# Altium schematic symbol library Plytka_rozwojowa_ZCAD.SCHLIB: 103 symbols (part 2 of 2)
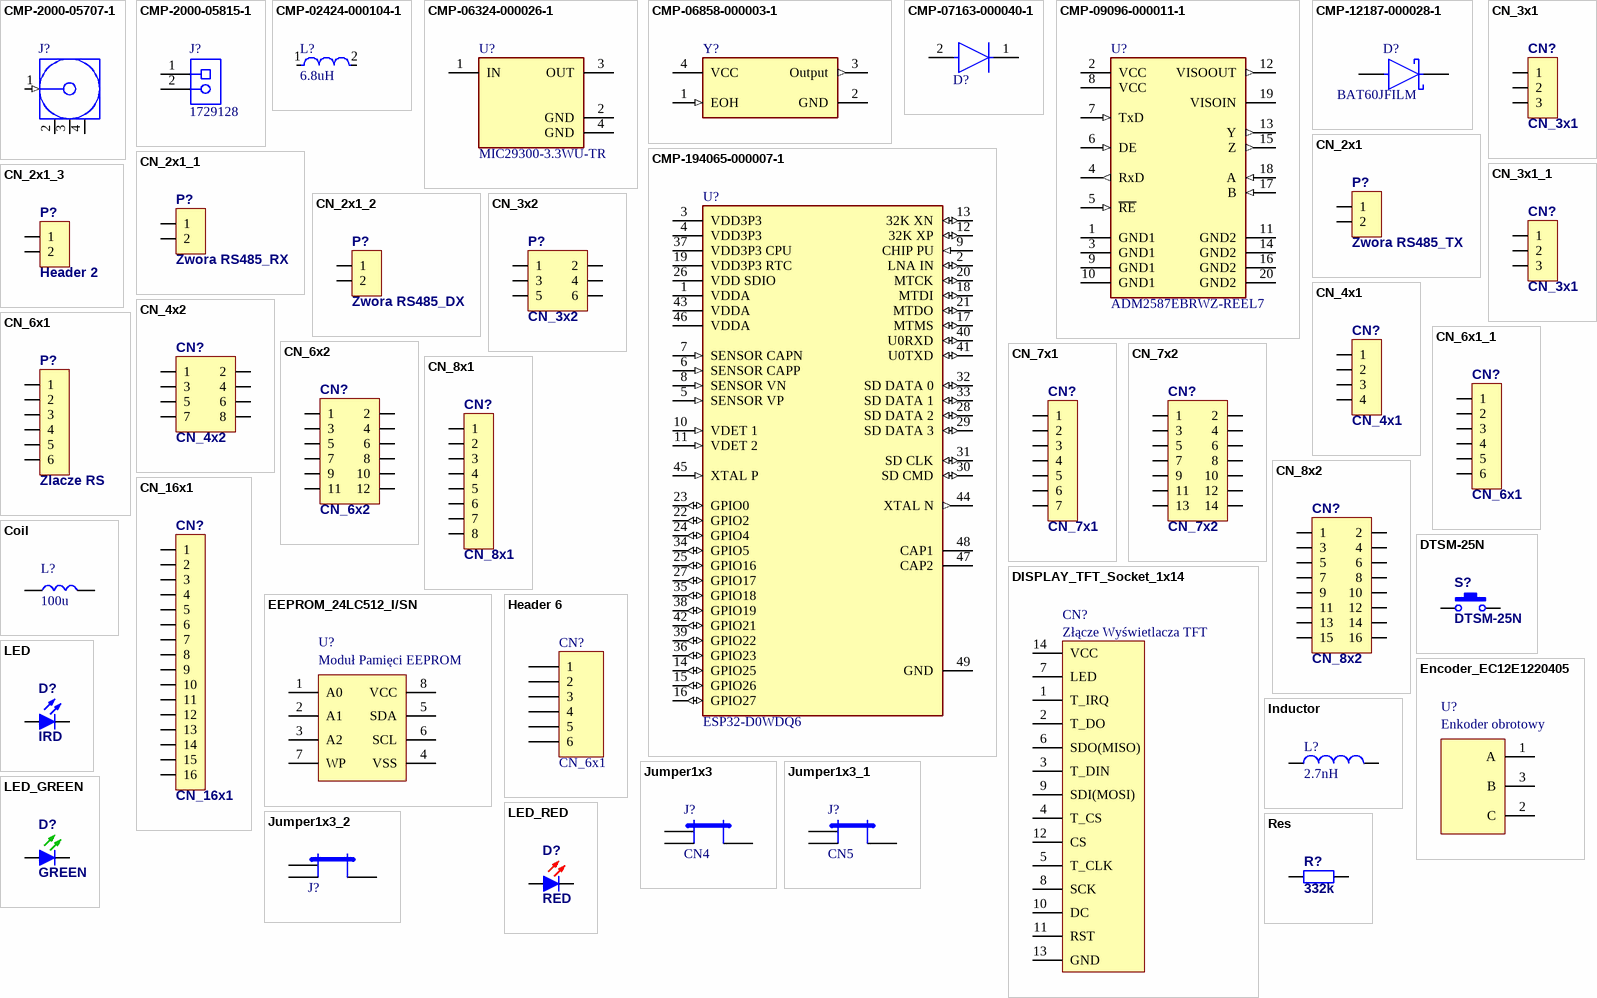
[diagram p3: symbols CMP-2000-05707-1 to Res]

## CMP-09096-000011-1
designator U?, comment ADM2587EBRWZ-REEL7
DGTL ISO RS422/RS485 20SOIC TME@ADM2587EBRWZ-REEL7; Manufacturer: Analog Devices; Min Supply Voltage: 3.3V; Simplex Duplex: Full Duplex; Nominal Supply Current: 72-125mA; Data Rate: 500kbits/s; Number Of Receivers: 1; Interface: RS-485,RS-422; Max Supply Voltage: 5V; Standoff Height: 0.1mm; Package: RW-20; ComponentLink2Description: Datasheet; Digikey Description: DGTL ISO RS422/RS485 20SOIC; Ipc Land Pattern Name: SOIC127P1032X250-20; Automotive: No; Octopart: https://octopart.com/adm2587ebrwz-reel7-analog+devices-12809043; Device Class L3: RS-232 / RS-422 / RS-485 Interface ICs; Temperature: -40°C to +85°C; Lead Free: Yes; ComponentLink2URL: https://www.analog.com/media/en/technical-documentation/data-sheets/adm2582e_2587e.pdf; RoHS: TRUE; Manufacturer Part Number: ADM2587EBRWZ-REEL7; Temperature Range Low: -40°C; Height: 2.65mm; Temperature Range High: +85°C; Mouser Description: Digital Isolators 2.5kV Sgnl & Pwr Iso Full/Hlf Duplx; Device Class L2: Interface ICs; Device Class L1: Integrated Circuits (ICs); Number Of Transmitters: 1; Category: IC; ComponentLink3Description: TME; ComponentLink3URL: https://www.tme.eu/pl/details/adm2587ebrwz-reel7/uklady-scalone-interfejs-rs232-422-485/analog-devices/; Manufacturer 1: Analog Devices; Manufacturer Part Number 1: ADM2587EBRWZ-REEL7
footprint FP-RW-20-IPC_C
footprint FP-RW-20-IPC_B
footprint FP-RW-20-IPC_A
pins: 1 GND1 (power), 2 VCC (power), 3 GND1 (power), 4 RxD (out), 5 ~{RE} (in), 6 DE (in), 7 TxD (in), 8 VCC (power), 9 GND1 (power), 10 GND1 (power), 11 GND2 (power), 12 VISOOUT (out), 13 Y (out), 14 GND2 (power), 15 Z (out), 16 GND2 (power), 17 B (in), 18 A (in), 19 VISOIN (power), 20 GND2 (power)

## CMP-12187-000028-1
designator D?, comment BAT60JFILM
Diode schottky RRM; Manufacturer 1: STMicroelectronics; Current: 3A; Max Forward Surge Current (Ifsm): 5A; Forward Voltage: 580mV; Max Reverse Leakage Current: 7.5uA; Element Configuration: Single; Max Reverse Voltage (DC): 10V; Polarity: Standard; Contact Plating: Tin; Package Quantity: 1; Mount: Surface Mount; Min Operating Temperature: -65°C; Average Rectified Current: 3A; Packaging: Tape and Reel; Forward Current: 3A; Height: 1.07mm; Length: 1.8mm; REACH SVHC: No SVHC; Peak Non-Repetitive Surge Current: 5A; Max Surge Current: 5A; Width: 1.45mm; Current Rating: 3A; Lead Free: Lead Free; Radiation Hardening: No; Peak Reverse Current: 7.5uA; Voltage: 10V; Max Operating Temperature: 150°C; Max Repetitive Reverse Voltage (Vrrm): 10V; Number of Pins: 2; Weight: 0.01lb; Footprint: SOD323; Footprint model: https://octopart.com/search?autosugg_idx=0&currency=USD&oq=BAT60JFILM&q=BAT60JFILM&specs=1; 3D model: https://octopart.com/search?autosugg_idx=0&currency=USD&oq=BAT60JFILM&q=BAT60JFILM&specs=1; Shop link: RS-Components: @7146879P; Manufacturer Part Number 1: BAT60JFILM
footprint FP-BAT60JFILM-MFG
footprint FP-BAT60JFILM-IPC_C
footprint FP-BAT60JFILM-IPC_B
footprint FP-BAT60JFILM-IPC_A
pins: 1 K, 2 A

## CMP-194065-000007-1
designator U?, comment ESP32-D0WDQ6
IC RF TXRX+MCU BLUETOOTH 48VFQFN; Manufacturer 1: Espressif Systems; Memory Size: 520KB; Current - Receiving: 100mA; Current - Transmitting: 240mA; Interface: I2C; Sensitivity: -98dBm; Frequency: 2.4GHz; Data Rate: 150Mbps; Number of GPIO: 34; Min Operating Temperature: -40°C; Max Operating Temperature: 125°C; Packaging: Tape and Reel; Manufacturer Part Number 1: ESP32-D0WDQ6
footprint FP-ESP32-D0WDQ6-IPC_C
footprint FP-ESP32-D0WDQ6-IPC_B
footprint FP-ESP32-D0WDQ6-IPC_A
pins: 1 VDDA (power), 2 LNA IN (io), 3 VDD3P3 (power), 4 VDD3P3 (power), 5 SENSOR VP (in), 6 SENSOR CAPP (in), 7 SENSOR CAPN (in), 8 SENSOR VN (in), 9 CHIP PU (in), 10 VDET 1 (in), 11 VDET 2 (in), 12 32K XP (io), 13 32K XN (io), 14 GPIO25 (io), 15 GPIO26 (io), 16 GPIO27 (io), 17 MTMS (io), 18 MTDI (io), 19 VDD3P3 RTC (power), 20 MTCK (io), 21 MTDO (io), 22 GPIO2 (io), 23 GPIO0 (io), 24 GPIO4 (io), 25 GPIO16 (io), 26 VDD SDIO (power), 27 GPIO17 (io), 28 SD DATA 2 (io), 29 SD DATA 3 (io), 30 SD CMD (io), 31 SD CLK (io), 32 SD DATA 0 (io), 33 SD DATA 1 (io), 34 GPIO5 (io), 35 GPIO18 (io), 36 GPIO23 (io), 37 VDD3P3 CPU (power), 38 GPIO19 (io), 39 GPIO22 (io), 40 U0RXD (io), 41 U0TXD (io), 42 GPIO21 (io), 43 VDDA (power), 44 XTAL N (out), 45 XTAL P (in), 46 VDDA (power), 47 CAP2, 48 CAP1, 49 GND (power)

## CN_2x1
designator P?, comment Zwora RS485_TX
footprint GP_2x1
footprint GP_2x1H
footprint GP_2x1H_2mm
footprint GP_2x1_2mm
pins: 1, 2

## CN_2x1_1
designator P?, comment Zwora RS485_RX
footprint GP_2x1
footprint GP_2x1H
footprint GP_2x1H_2mm
footprint GP_2x1_2mm
pins: 1, 2

## CN_2x1_2
designator P?, comment Zwora RS485_DX
footprint GP_2x1
footprint GP_2x1H
footprint GP_2x1H_2mm
footprint GP_2x1_2mm
pins: 1, 2

## CN_2x1_3
designator P?, comment Header 2
footprint GP_2x1
footprint GP_2x1H
footprint GP_2x1H_2mm
footprint GP_2x1_2mm
pins: 1, 2

## CN_3x1
designator CN?
Goldpin type: male 2.54mm
footprint GP_3x1
footprint GP_3x1H
footprint GP_3x1H_2mm
footprint GP_3x1_2mm
pins: 1, 2, 3

## CN_3x1_1
designator CN?, comment CN_3x1
footprint GP_3x1
footprint GP_3x1H
footprint GP_3x1H_2mm
footprint GP_3x1_2mm
pins: 1, 2, 3

## CN_3x2
designator P?
footprint GP_3x2
footprint GP_3x2H
footprint GP_3x2H_2mm
footprint GP_3x2_2mm
pins: 1, 2, 3, 4, 5, 6

## CN_4x1
designator CN?
footprint GP_4x1
footprint GP_4x1H
footprint GP_4x1H_2mm
footprint GP_4x1_2mm
pins: 1, 2, 3, 4

## CN_4x2
designator CN?
footprint GP_4x2
footprint GP_4x2H
footprint GP_4x2H_2mm
footprint GP_4x2_2mm
pins: 1, 2, 3, 4, 5, 6, 7, 8

## CN_6x1
designator P?, comment Zlacze RS
footprint GP_6x1H
footprint GP_6x1
footprint GP_6x1H_2mm
footprint GP_6x1_2mm
pins: 1, 2, 3, 4, 5, 6

## CN_6x1_1
designator CN?, comment CN_6x1
footprint GP_6x1H
footprint GP_6x1
footprint GP_6x1H_2mm
footprint GP_6x1_2mm
pins: 1, 2, 3, 4, 5, 6

## CN_6x2
designator CN?
footprint GP_6x2
footprint GP_6x2H
footprint GP_6x2H_2mm
footprint GP_6x2_2mm
footprint GP_6x2_2mm_SMD
pins: 1, 2, 3, 4, 5, 6, 7, 8, 9, 10, 11, 12

## CN_7x1
designator CN?
footprint GP_7x1
footprint GP_7x1H
footprint GP_7x1H_2mm
footprint GP_7x1_2mm
pins: 1, 2, 3, 4, 5, 6, 7

## CN_7x2
designator CN?
footprint GP_7x2
footprint GP_7x2H
footprint GP_7x2H_2mm
footprint GP_7x2_2mm
pins: 1, 2, 3, 4, 5, 6, 7, 8, 9, 10, 11, 12, 13, 14

## CN_8x1
designator CN?
footprint GP_8x1
footprint GP_8x1H
footprint GP_8x1H_2mm
footprint GP_8x1_2mm
pins: 1, 2, 3, 4, 5, 6, 7, 8

## CN_8x2
designator CN?
footprint GP_8x2H
footprint GP_8x2
footprint GP_8x2_2mm
footprint GP_8x2H_2mm
pins: 1, 2, 3, 4, 5, 6, 7, 8, 9, 10, 11, 12, 13, 14, 15, 16

## CN_16x1
designator CN?
footprint GP_16x1
footprint GP_16x1H
pins: 1, 2, 3, 4, 5, 6, 7, 8, 9, 10, 11, 12, 13, 14, 15, 16

## Coil
designator L?  value 100u  (hidden comment: Coil)
Model: COIL0406-0.1; Shop link: https://www.tme.eu/pl/details/coil0406-0.1/dlawiki-pionowe/ferrocore/; Voltage: *; Prefered Voltage: *; Assembly type: THT; Quantity: *; User description: *; 3D model link: *
footprint Coil_Raster_2mm
pins: 1, 2

## DISPLAY_TFT_Socket_1x14
designator CN?, comment Złącze Wyświetlacza TFT
footprint Display_TFT_Socket_1x14_Raster_2_54mm
pins: 1 T_IRQ, 2 T_DO, 3 T_DIN, 4 T_CS, 5 T_CLK, 6 SDO(MISO), 7 LED, 8 SCK, 9 SDI(MOSI), 10 DC, 11 RST, 12 CS, 13 GND, 14 VCC

## DTSM-25N
designator S?
DIPTRONICS Brown 12x12mm SMD Tactile SPST-NO Switch; Supplier 1: TME; Supplier Part Number 1: DTSM-25N-V-B
footprint DTSM-25N
pins: 1, 2

## EEPROM_24LC512_I/SN
designator U?, comment Moduł Pamięci EEPROM
Model: 24LC512-I/SN; Shop link: https://www.tme.eu/pl/details/24lc512-i_sn/pamieci-eeprom-szeregowe/microchip-technology/; Value: *; Quantity: *; Voltage: *; Assembly type: SMD; Footprint link: https://www.snapeda.com/parts/24LC512-I/SN/Microchip%20Technology/view-part/?ref=search&t=%2024LC512-I%2FSN; 3D model link: https://www.snapeda.com/parts/24LC512-I/SN/Microchip%20Technology/view-part/?ref=search&t=%2024LC512-I%2FSN
footprint SOIC127P794X203-8N
pins: 1 A0, 2 A1, 3 A2, 4 VSS, 5 SDA, 6 SCL, 7 WP, 8 VCC

## Encoder_EC12E1220405
designator U?, comment Enkoder obrotowy
Model: EC12E1220405; Shop link: https://www.tme.eu/pl/details/ec12e1220405/enkodery-inkrementalne/alps/; Footprint link: Own design; 3D model link: https://www.snapeda.com/parts/EC12E1220405/ALPS/view-part/?ref=search&t=EC12E1220405
footprint Encoder_EC12E1220405 (Enkoder obrotowy)
pins: 1 A, 2 C, 3 B

## Header 6
designator CN?, comment CN_6x1
Header, 6-Pin; LatestRevisionDate: 17-Jul-2002; LatestRevisionNote: Re-released for DXP Platform.; Publisher: Altium Limited
footprint HDR1X6 (Connector; Header; 6 Position)
signal-integrity model Connector
pins: 1, 2, 3, 4, 5, 6

## Inductor
designator L?, comment value 2.7nH  (hidden comment: TME@0402AS-2N7K-08)
0402; Code_IEC: 1005; Published: 8-Jun-2000; LatestRevisionDate: 29-May-2009; LatestRevisionNote: IPC-7351 Footprint Added.; PackageReference: 0402-A; Publisher: Altium Limited; PackageDescription: Chip Inductor; Code_JEITA: 0402; ComponentLink1Description: New link; ComponentLink1URL: https://www.tme.eu/pl/details/0402as-2n7k-08/dlawiki-smd-0402/fastron/
footprint 0402-A (Chip Inductor, Body 1.0x0.5mm, IPC High Density)
footprint INDC1608L (Chip Inductor, Body 1.6x0.8mm, IPC High Density)
footprint 2029 (Chip Inductor, Body 2.0x1.2mm, IPC High Density)
footprint 0603 (Chip Inductor, Body 0.6x0.3mm, IPC High Density)
footprint INDC3216 (Chip Inductor, Body 3.2x1.6mm, IPC High Density)
footprint INDC4532 (Chip Inductor, Body 4.5x3.2mm, IPC High Density)
simulation model INDUCTOR (Inductor)
signal-integrity model Inductor
pins: 1, 2

## Jumper1x3
designator J?, comment CN4
footprint Model Name (Footprint not found)
footprint Jumper_1x3_Raster_2_54mm
pins: 1, 2, 3 1

## Jumper1x3_1
designator J?, comment CN5
footprint Model Name (Footprint not found)
footprint Jumper_1x3_Raster_2_54mm
pins: 1, 2, 3 1

## Jumper1x3_2
designator J?, comment Zworka  (value not drawn)
footprint Model Name (Footprint not found)
footprint Jumper_1x3_Raster_2_54mm
pins: 1, 2, 3 1

## LED
designator D?, comment IRD
Typical RED, GREEN, YELLOW, AMBER GaAs LED; Published: 04-Apr-2006
footprint LED
footprint LED V (LED)
footprint LED-Polarized
footprint LED-Polarized - 3mm
footprint LED_UNI
footprint LED1206G
footprint LED1206R
footprint LED1206Y
footprint LED0805B
footprint LED0805G
footprint LED0805O
footprint LED0805R
footprint LED0805Y
footprint LED0603B
footprint LED0603R
footprint LED0603G
footprint LED0603Y
footprint LED0603O
footprint DLx2/6 (20mm BIG LAMPS)
pins: 1 A, 2 K

## LED_GREEN
designator D?, comment GREEN
GREEN LED; Published: 04-Apr-2006
footprint LED1206G
footprint LED0805G
footprint LED0603G
footprint LED3528G
footprint LED5050G
pins: 1 A, 2 K

## LED_RED
designator D?, comment RED
RED LED; Published: 04-Apr-2006
footprint LED1206R
footprint LED0805R
footprint LED0603R
footprint LED3528R
footprint LED5050R
pins: 1 A, 2 K

## Res
designator R?  value 332k
Resistor SMD  ±1%; Published: 19-Feb-2006; ComponentLink1Description: datasheet; ComponentLink2Description: supplier
footprint PWR4412-2SBR010F (BOURNS 1W 0.01R)
footprint R0402
footprint R0603
footprint R0805
footprint R1206
footprint R1210
footprint R1812 (1812 size SMD resistor)
footprint R2512 (2512 size SMD resistor)
footprint RES10.35-6.8X2.8 (Resistor, Axial; Body 6.8 x 2.8 mm (LxDia. max), Lead Dia. 0.65 mm (max))
footprint RES14.2-10.5X3.3 (Resistor, Axial; Body 10.5 x 3.3 mm (LxDia. max), Lead Dia. 0.7 mm (max))
footprint RES17.2-13.5X6.3 (Resistor, Axial; Body 13.5 x 6.3 mm (LxDia. max), Lead Dia. 0.7 mm (max))
footprint RES21.6-16.5X6.5 (Resistor, Axial; Body 16.5 x 6.5 mm (LxDia. max), Lead Dia. 0.85 mm (max))
footprint RES30.6-25.5X9 (Resistor, Axial; Body 25.5 x 9 mm (LxDia. max), Lead Dia. 0.85 mm (max))
footprint RES41.6-36.5X10.5 (Resistor, Axial; Body 36.5 x 10.5 x 10.5mm (LxWxH max), Lead Dia. 0.85 mm (max))
simulation model RES (Default semiconductor resistor)
footprint R1206_OLD
pins: 1, 2
2 alternate drawings of the same symbol

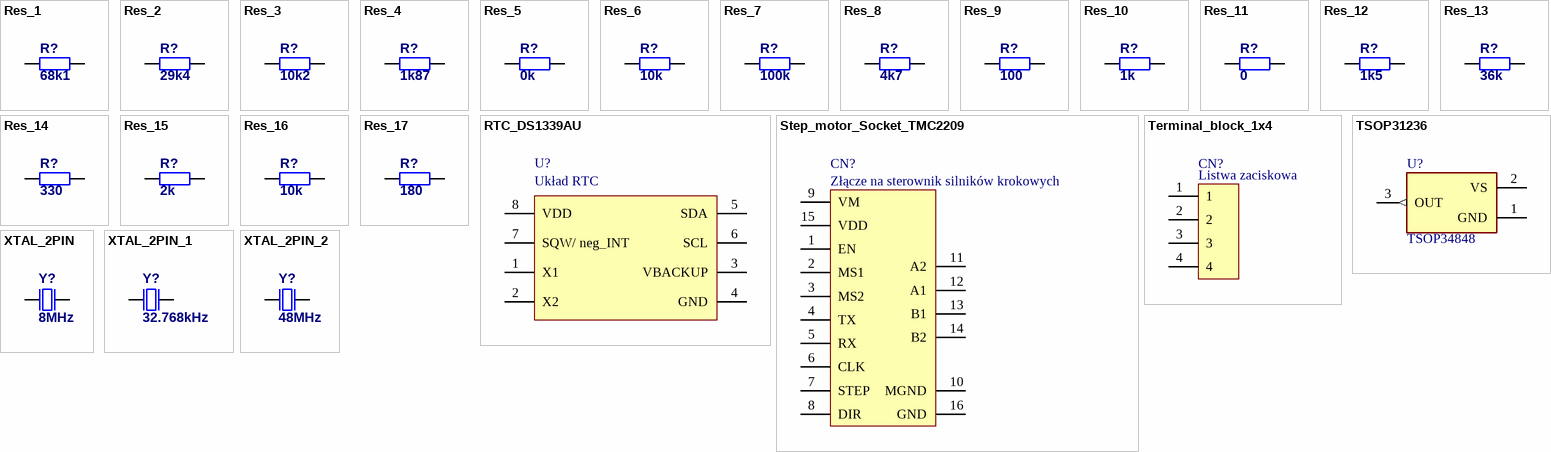
[diagram p2: symbols Res_1 to XTAL_2PIN_2]

## Res_1
designator R?  value 68k1
Resistor SMD  ±1%; Published: 19-Feb-2006; ComponentLink1Description: datasheet; ComponentLink2Description: supplier
footprint PWR4412-2SBR010F (BOURNS 1W 0.01R)
footprint R0402
footprint R0603
footprint R0805
footprint R1206
footprint R1210
footprint R1812 (1812 size SMD resistor)
footprint R2512 (2512 size SMD resistor)
footprint RES10.35-6.8X2.8 (Resistor, Axial; Body 6.8 x 2.8 mm (LxDia. max), Lead Dia. 0.65 mm (max))
footprint RES14.2-10.5X3.3 (Resistor, Axial; Body 10.5 x 3.3 mm (LxDia. max), Lead Dia. 0.7 mm (max))
footprint RES17.2-13.5X6.3 (Resistor, Axial; Body 13.5 x 6.3 mm (LxDia. max), Lead Dia. 0.7 mm (max))
footprint RES21.6-16.5X6.5 (Resistor, Axial; Body 16.5 x 6.5 mm (LxDia. max), Lead Dia. 0.85 mm (max))
footprint RES30.6-25.5X9 (Resistor, Axial; Body 25.5 x 9 mm (LxDia. max), Lead Dia. 0.85 mm (max))
footprint RES41.6-36.5X10.5 (Resistor, Axial; Body 36.5 x 10.5 x 10.5mm (LxWxH max), Lead Dia. 0.85 mm (max))
simulation model RES (Default semiconductor resistor)
footprint R1206_OLD
pins: 1, 2
2 alternate drawings of the same symbol

## Res_2
designator R?  value 29k4
Resistor SMD  ±1%; Published: 19-Feb-2006; ComponentLink1Description: datasheet; ComponentLink2Description: supplier
footprint PWR4412-2SBR010F (BOURNS 1W 0.01R)
footprint R0402
footprint R0603
footprint R0805
footprint R1206
footprint R1210
footprint R1812 (1812 size SMD resistor)
footprint R2512 (2512 size SMD resistor)
footprint RES10.35-6.8X2.8 (Resistor, Axial; Body 6.8 x 2.8 mm (LxDia. max), Lead Dia. 0.65 mm (max))
footprint RES14.2-10.5X3.3 (Resistor, Axial; Body 10.5 x 3.3 mm (LxDia. max), Lead Dia. 0.7 mm (max))
footprint RES17.2-13.5X6.3 (Resistor, Axial; Body 13.5 x 6.3 mm (LxDia. max), Lead Dia. 0.7 mm (max))
footprint RES21.6-16.5X6.5 (Resistor, Axial; Body 16.5 x 6.5 mm (LxDia. max), Lead Dia. 0.85 mm (max))
footprint RES30.6-25.5X9 (Resistor, Axial; Body 25.5 x 9 mm (LxDia. max), Lead Dia. 0.85 mm (max))
footprint RES41.6-36.5X10.5 (Resistor, Axial; Body 36.5 x 10.5 x 10.5mm (LxWxH max), Lead Dia. 0.85 mm (max))
simulation model RES (Default semiconductor resistor)
footprint R1206_OLD
pins: 1, 2
2 alternate drawings of the same symbol

## Res_3
designator R?  value 10k2
Resistor SMD  ±1%; Published: 19-Feb-2006; ComponentLink1Description: datasheet; ComponentLink2Description: supplier
footprint PWR4412-2SBR010F (BOURNS 1W 0.01R)
footprint R0402
footprint R0603
footprint R0805
footprint R1206
footprint R1210
footprint R1812 (1812 size SMD resistor)
footprint R2512 (2512 size SMD resistor)
footprint RES10.35-6.8X2.8 (Resistor, Axial; Body 6.8 x 2.8 mm (LxDia. max), Lead Dia. 0.65 mm (max))
footprint RES14.2-10.5X3.3 (Resistor, Axial; Body 10.5 x 3.3 mm (LxDia. max), Lead Dia. 0.7 mm (max))
footprint RES17.2-13.5X6.3 (Resistor, Axial; Body 13.5 x 6.3 mm (LxDia. max), Lead Dia. 0.7 mm (max))
footprint RES21.6-16.5X6.5 (Resistor, Axial; Body 16.5 x 6.5 mm (LxDia. max), Lead Dia. 0.85 mm (max))
footprint RES30.6-25.5X9 (Resistor, Axial; Body 25.5 x 9 mm (LxDia. max), Lead Dia. 0.85 mm (max))
footprint RES41.6-36.5X10.5 (Resistor, Axial; Body 36.5 x 10.5 x 10.5mm (LxWxH max), Lead Dia. 0.85 mm (max))
simulation model RES (Default semiconductor resistor)
footprint R1206_OLD
pins: 1, 2
2 alternate drawings of the same symbol

## Res_4
designator R?  value 1k87
Resistor SMD  ±1%; Published: 19-Feb-2006; ComponentLink1Description: datasheet; ComponentLink2Description: supplier
footprint PWR4412-2SBR010F (BOURNS 1W 0.01R)
footprint R0402
footprint R0603
footprint R0805
footprint R1206
footprint R1210
footprint R1812 (1812 size SMD resistor)
footprint R2512 (2512 size SMD resistor)
footprint RES10.35-6.8X2.8 (Resistor, Axial; Body 6.8 x 2.8 mm (LxDia. max), Lead Dia. 0.65 mm (max))
footprint RES14.2-10.5X3.3 (Resistor, Axial; Body 10.5 x 3.3 mm (LxDia. max), Lead Dia. 0.7 mm (max))
footprint RES17.2-13.5X6.3 (Resistor, Axial; Body 13.5 x 6.3 mm (LxDia. max), Lead Dia. 0.7 mm (max))
footprint RES21.6-16.5X6.5 (Resistor, Axial; Body 16.5 x 6.5 mm (LxDia. max), Lead Dia. 0.85 mm (max))
footprint RES30.6-25.5X9 (Resistor, Axial; Body 25.5 x 9 mm (LxDia. max), Lead Dia. 0.85 mm (max))
footprint RES41.6-36.5X10.5 (Resistor, Axial; Body 36.5 x 10.5 x 10.5mm (LxWxH max), Lead Dia. 0.85 mm (max))
simulation model RES (Default semiconductor resistor)
footprint R1206_OLD
pins: 1, 2
2 alternate drawings of the same symbol

## Res_5
designator R?  value 0k
Resistor SMD  ±5%; Published: 19-Feb-2006; ComponentLink1Description: datasheet; ComponentLink2Description: supplier
footprint PWR4412-2SBR010F (BOURNS 1W 0.01R)
footprint R0402
footprint R0603
footprint R0805
footprint R1206
footprint R1210
footprint R1812 (1812 size SMD resistor)
footprint R2512 (2512 size SMD resistor)
footprint RES10.35-6.8X2.8 (Resistor, Axial; Body 6.8 x 2.8 mm (LxDia. max), Lead Dia. 0.65 mm (max))
footprint RES14.2-10.5X3.3 (Resistor, Axial; Body 10.5 x 3.3 mm (LxDia. max), Lead Dia. 0.7 mm (max))
footprint RES17.2-13.5X6.3 (Resistor, Axial; Body 13.5 x 6.3 mm (LxDia. max), Lead Dia. 0.7 mm (max))
footprint RES21.6-16.5X6.5 (Resistor, Axial; Body 16.5 x 6.5 mm (LxDia. max), Lead Dia. 0.85 mm (max))
footprint RES30.6-25.5X9 (Resistor, Axial; Body 25.5 x 9 mm (LxDia. max), Lead Dia. 0.85 mm (max))
footprint RES41.6-36.5X10.5 (Resistor, Axial; Body 36.5 x 10.5 x 10.5mm (LxWxH max), Lead Dia. 0.85 mm (max))
simulation model RES (Default semiconductor resistor)
footprint R1206_OLD
pins: 1, 2
2 alternate drawings of the same symbol

## Res_6
designator R?, comment 10k
Resistor SMD  ±5%; Published: 19-Feb-2006; ComponentLink1Description: datasheet; ComponentLink2Description: supplier; Value: 10k
footprint PWR4412-2SBR010F (BOURNS 1W 0.01R)
footprint R0402
footprint R0603
footprint R0805
footprint R1206
footprint R1210
footprint R1812 (1812 size SMD resistor)
footprint R2512 (2512 size SMD resistor)
footprint RES10.35-6.8X2.8 (Resistor, Axial; Body 6.8 x 2.8 mm (LxDia. max), Lead Dia. 0.65 mm (max))
footprint RES14.2-10.5X3.3 (Resistor, Axial; Body 10.5 x 3.3 mm (LxDia. max), Lead Dia. 0.7 mm (max))
footprint RES17.2-13.5X6.3 (Resistor, Axial; Body 13.5 x 6.3 mm (LxDia. max), Lead Dia. 0.7 mm (max))
footprint RES21.6-16.5X6.5 (Resistor, Axial; Body 16.5 x 6.5 mm (LxDia. max), Lead Dia. 0.85 mm (max))
footprint RES30.6-25.5X9 (Resistor, Axial; Body 25.5 x 9 mm (LxDia. max), Lead Dia. 0.85 mm (max))
footprint RES41.6-36.5X10.5 (Resistor, Axial; Body 36.5 x 10.5 x 10.5mm (LxWxH max), Lead Dia. 0.85 mm (max))
simulation model RES (Default semiconductor resistor)
footprint R1206_OLD
pins: 1, 2
2 alternate drawings of the same symbol

## Res_7
designator R?, comment 100k
Resistor SMD  ±5%; Published: 19-Feb-2006; ComponentLink1Description: datasheet; ComponentLink2Description: supplier; Value: 100k
footprint PWR4412-2SBR010F (BOURNS 1W 0.01R)
footprint R0402
footprint R0603
footprint R0805
footprint R1206
footprint R1210
footprint R1812 (1812 size SMD resistor)
footprint R2512 (2512 size SMD resistor)
footprint RES10.35-6.8X2.8 (Resistor, Axial; Body 6.8 x 2.8 mm (LxDia. max), Lead Dia. 0.65 mm (max))
footprint RES14.2-10.5X3.3 (Resistor, Axial; Body 10.5 x 3.3 mm (LxDia. max), Lead Dia. 0.7 mm (max))
footprint RES17.2-13.5X6.3 (Resistor, Axial; Body 13.5 x 6.3 mm (LxDia. max), Lead Dia. 0.7 mm (max))
footprint RES21.6-16.5X6.5 (Resistor, Axial; Body 16.5 x 6.5 mm (LxDia. max), Lead Dia. 0.85 mm (max))
footprint RES30.6-25.5X9 (Resistor, Axial; Body 25.5 x 9 mm (LxDia. max), Lead Dia. 0.85 mm (max))
footprint RES41.6-36.5X10.5 (Resistor, Axial; Body 36.5 x 10.5 x 10.5mm (LxWxH max), Lead Dia. 0.85 mm (max))
simulation model RES (Default semiconductor resistor)
footprint R1206_OLD
pins: 1, 2
2 alternate drawings of the same symbol

## Res_8
designator R?, comment 4k7
Resistor SMD  ±5%; Published: 19-Feb-2006; ComponentLink1Description: datasheet; ComponentLink2Description: supplier; Value: 4k7
footprint PWR4412-2SBR010F (BOURNS 1W 0.01R)
footprint R0402
footprint R0603
footprint R0805
footprint R1206
footprint R1210
footprint R1812 (1812 size SMD resistor)
footprint R2512 (2512 size SMD resistor)
footprint RES10.35-6.8X2.8 (Resistor, Axial; Body 6.8 x 2.8 mm (LxDia. max), Lead Dia. 0.65 mm (max))
footprint RES14.2-10.5X3.3 (Resistor, Axial; Body 10.5 x 3.3 mm (LxDia. max), Lead Dia. 0.7 mm (max))
footprint RES17.2-13.5X6.3 (Resistor, Axial; Body 13.5 x 6.3 mm (LxDia. max), Lead Dia. 0.7 mm (max))
footprint RES21.6-16.5X6.5 (Resistor, Axial; Body 16.5 x 6.5 mm (LxDia. max), Lead Dia. 0.85 mm (max))
footprint RES30.6-25.5X9 (Resistor, Axial; Body 25.5 x 9 mm (LxDia. max), Lead Dia. 0.85 mm (max))
footprint RES41.6-36.5X10.5 (Resistor, Axial; Body 36.5 x 10.5 x 10.5mm (LxWxH max), Lead Dia. 0.85 mm (max))
simulation model RES (Default semiconductor resistor)
footprint R1206_OLD
pins: 1, 2
2 alternate drawings of the same symbol

## Res_9
designator R?, comment 100
Resistor SMD  ±5%; Published: 19-Feb-2006; ComponentLink1Description: datasheet; ComponentLink2Description: supplier; Value: 100
footprint PWR4412-2SBR010F (BOURNS 1W 0.01R)
footprint R0402
footprint R0603
footprint R0805
footprint R1206
footprint R1210
footprint R1812 (1812 size SMD resistor)
footprint R2512 (2512 size SMD resistor)
footprint RES10.35-6.8X2.8 (Resistor, Axial; Body 6.8 x 2.8 mm (LxDia. max), Lead Dia. 0.65 mm (max))
footprint RES14.2-10.5X3.3 (Resistor, Axial; Body 10.5 x 3.3 mm (LxDia. max), Lead Dia. 0.7 mm (max))
footprint RES17.2-13.5X6.3 (Resistor, Axial; Body 13.5 x 6.3 mm (LxDia. max), Lead Dia. 0.7 mm (max))
footprint RES21.6-16.5X6.5 (Resistor, Axial; Body 16.5 x 6.5 mm (LxDia. max), Lead Dia. 0.85 mm (max))
footprint RES30.6-25.5X9 (Resistor, Axial; Body 25.5 x 9 mm (LxDia. max), Lead Dia. 0.85 mm (max))
footprint RES41.6-36.5X10.5 (Resistor, Axial; Body 36.5 x 10.5 x 10.5mm (LxWxH max), Lead Dia. 0.85 mm (max))
simulation model RES (Default semiconductor resistor)
footprint R1206_OLD
pins: 1, 2
2 alternate drawings of the same symbol

## Res_10
designator R?, comment 1k
Resistor SMD  ±5%; Published: 19-Feb-2006; ComponentLink1Description: datasheet; ComponentLink2Description: supplier; Value: 1k
footprint PWR4412-2SBR010F (BOURNS 1W 0.01R)
footprint R0402
footprint R0603
footprint R0805
footprint R1206
footprint R1210
footprint R1812 (1812 size SMD resistor)
footprint R2512 (2512 size SMD resistor)
footprint RES10.35-6.8X2.8 (Resistor, Axial; Body 6.8 x 2.8 mm (LxDia. max), Lead Dia. 0.65 mm (max))
footprint RES14.2-10.5X3.3 (Resistor, Axial; Body 10.5 x 3.3 mm (LxDia. max), Lead Dia. 0.7 mm (max))
footprint RES17.2-13.5X6.3 (Resistor, Axial; Body 13.5 x 6.3 mm (LxDia. max), Lead Dia. 0.7 mm (max))
footprint RES21.6-16.5X6.5 (Resistor, Axial; Body 16.5 x 6.5 mm (LxDia. max), Lead Dia. 0.85 mm (max))
footprint RES30.6-25.5X9 (Resistor, Axial; Body 25.5 x 9 mm (LxDia. max), Lead Dia. 0.85 mm (max))
footprint RES41.6-36.5X10.5 (Resistor, Axial; Body 36.5 x 10.5 x 10.5mm (LxWxH max), Lead Dia. 0.85 mm (max))
simulation model RES (Default semiconductor resistor)
footprint R1206_OLD
pins: 1, 2
2 alternate drawings of the same symbol

## Res_11
designator R?, comment 0
Resistor SMD  ±5%; Published: 19-Feb-2006; ComponentLink1Description: datasheet; ComponentLink2Description: supplier; Value: 0
footprint PWR4412-2SBR010F (BOURNS 1W 0.01R)
footprint R0402
footprint R0603
footprint R0805
footprint R1206
footprint R1210
footprint R1812 (1812 size SMD resistor)
footprint R2512 (2512 size SMD resistor)
footprint RES10.35-6.8X2.8 (Resistor, Axial; Body 6.8 x 2.8 mm (LxDia. max), Lead Dia. 0.65 mm (max))
footprint RES14.2-10.5X3.3 (Resistor, Axial; Body 10.5 x 3.3 mm (LxDia. max), Lead Dia. 0.7 mm (max))
footprint RES17.2-13.5X6.3 (Resistor, Axial; Body 13.5 x 6.3 mm (LxDia. max), Lead Dia. 0.7 mm (max))
footprint RES21.6-16.5X6.5 (Resistor, Axial; Body 16.5 x 6.5 mm (LxDia. max), Lead Dia. 0.85 mm (max))
footprint RES30.6-25.5X9 (Resistor, Axial; Body 25.5 x 9 mm (LxDia. max), Lead Dia. 0.85 mm (max))
footprint RES41.6-36.5X10.5 (Resistor, Axial; Body 36.5 x 10.5 x 10.5mm (LxWxH max), Lead Dia. 0.85 mm (max))
simulation model RES (Default semiconductor resistor)
footprint R1206_OLD
pins: 1, 2
2 alternate drawings of the same symbol

## Res_12
designator R?, comment 1k5
Resistor SMD  ±5%; Published: 19-Feb-2006; ComponentLink1Description: datasheet; ComponentLink2Description: supplier; Value: 1k5
footprint PWR4412-2SBR010F (BOURNS 1W 0.01R)
footprint R0402
footprint R0603
footprint R0805
footprint R1206
footprint R1210
footprint R1812 (1812 size SMD resistor)
footprint R2512 (2512 size SMD resistor)
footprint RES10.35-6.8X2.8 (Resistor, Axial; Body 6.8 x 2.8 mm (LxDia. max), Lead Dia. 0.65 mm (max))
footprint RES14.2-10.5X3.3 (Resistor, Axial; Body 10.5 x 3.3 mm (LxDia. max), Lead Dia. 0.7 mm (max))
footprint RES17.2-13.5X6.3 (Resistor, Axial; Body 13.5 x 6.3 mm (LxDia. max), Lead Dia. 0.7 mm (max))
footprint RES21.6-16.5X6.5 (Resistor, Axial; Body 16.5 x 6.5 mm (LxDia. max), Lead Dia. 0.85 mm (max))
footprint RES30.6-25.5X9 (Resistor, Axial; Body 25.5 x 9 mm (LxDia. max), Lead Dia. 0.85 mm (max))
footprint RES41.6-36.5X10.5 (Resistor, Axial; Body 36.5 x 10.5 x 10.5mm (LxWxH max), Lead Dia. 0.85 mm (max))
simulation model RES (Default semiconductor resistor)
footprint R1206_OLD
pins: 1, 2
2 alternate drawings of the same symbol

## Res_13
designator R?, comment 36k
Resistor SMD  ±5%; Published: 19-Feb-2006; ComponentLink1Description: datasheet; ComponentLink2Description: supplier; Value: 36k
footprint PWR4412-2SBR010F (BOURNS 1W 0.01R)
footprint R0402
footprint R0603
footprint R0805
footprint R1206
footprint R1210
footprint R1812 (1812 size SMD resistor)
footprint R2512 (2512 size SMD resistor)
footprint RES10.35-6.8X2.8 (Resistor, Axial; Body 6.8 x 2.8 mm (LxDia. max), Lead Dia. 0.65 mm (max))
footprint RES14.2-10.5X3.3 (Resistor, Axial; Body 10.5 x 3.3 mm (LxDia. max), Lead Dia. 0.7 mm (max))
footprint RES17.2-13.5X6.3 (Resistor, Axial; Body 13.5 x 6.3 mm (LxDia. max), Lead Dia. 0.7 mm (max))
footprint RES21.6-16.5X6.5 (Resistor, Axial; Body 16.5 x 6.5 mm (LxDia. max), Lead Dia. 0.85 mm (max))
footprint RES30.6-25.5X9 (Resistor, Axial; Body 25.5 x 9 mm (LxDia. max), Lead Dia. 0.85 mm (max))
footprint RES41.6-36.5X10.5 (Resistor, Axial; Body 36.5 x 10.5 x 10.5mm (LxWxH max), Lead Dia. 0.85 mm (max))
simulation model RES (Default semiconductor resistor)
footprint R1206_OLD
pins: 1, 2
2 alternate drawings of the same symbol

## Res_14
designator R?, comment 330
Resistor; Published: 19-Feb-2006; ComponentLink1Description: datasheet; ComponentLink2Description: supplier; Value: 330
footprint PWR4412-2SBR010F (BOURNS 1W 0.01R)
footprint R0402
footprint R0603
footprint R0805
footprint R1206
footprint R1210
footprint R1812 (1812 size SMD resistor)
footprint R2512 (2512 size SMD resistor)
footprint RES10.35-6.8X2.8 (Resistor, Axial; Body 6.8 x 2.8 mm (LxDia. max), Lead Dia. 0.65 mm (max))
footprint RES14.2-10.5X3.3 (Resistor, Axial; Body 10.5 x 3.3 mm (LxDia. max), Lead Dia. 0.7 mm (max))
footprint RES17.2-13.5X6.3 (Resistor, Axial; Body 13.5 x 6.3 mm (LxDia. max), Lead Dia. 0.7 mm (max))
footprint RES21.6-16.5X6.5 (Resistor, Axial; Body 16.5 x 6.5 mm (LxDia. max), Lead Dia. 0.85 mm (max))
footprint RES30.6-25.5X9 (Resistor, Axial; Body 25.5 x 9 mm (LxDia. max), Lead Dia. 0.85 mm (max))
footprint RES41.6-36.5X10.5 (Resistor, Axial; Body 36.5 x 10.5 x 10.5mm (LxWxH max), Lead Dia. 0.85 mm (max))
simulation model RES (Default semiconductor resistor)
footprint R1206_OLD
pins: 1, 2
2 alternate drawings of the same symbol

## Res_15
designator R?, comment 2k
Resistor; Published: 19-Feb-2006; Value: 2k; ComponentLink1Description: datasheet; ComponentLink2Description: supplier
footprint PWR4412-2SBR010F (BOURNS 1W 0.01R)
footprint R0402
footprint R0603
footprint R0805
footprint R1206
footprint R1210
footprint R1812 (1812 size SMD resistor)
footprint R2512 (2512 size SMD resistor)
footprint RES10.35-6.8X2.8 (Resistor, Axial; Body 6.8 x 2.8 mm (LxDia. max), Lead Dia. 0.65 mm (max))
footprint RES14.2-10.5X3.3 (Resistor, Axial; Body 10.5 x 3.3 mm (LxDia. max), Lead Dia. 0.7 mm (max))
footprint RES17.2-13.5X6.3 (Resistor, Axial; Body 13.5 x 6.3 mm (LxDia. max), Lead Dia. 0.7 mm (max))
footprint RES21.6-16.5X6.5 (Resistor, Axial; Body 16.5 x 6.5 mm (LxDia. max), Lead Dia. 0.85 mm (max))
footprint RES30.6-25.5X9 (Resistor, Axial; Body 25.5 x 9 mm (LxDia. max), Lead Dia. 0.85 mm (max))
footprint RES41.6-36.5X10.5 (Resistor, Axial; Body 36.5 x 10.5 x 10.5mm (LxWxH max), Lead Dia. 0.85 mm (max))
simulation model RES (Default semiconductor resistor)
footprint R1206_OLD
pins: 1, 2
2 alternate drawings of the same symbol

## Res_16
designator R?, comment 10k
Resistor; Published: 19-Feb-2006; Value: 10k; ComponentLink1Description: datasheet; ComponentLink2Description: supplier
footprint PWR4412-2SBR010F (BOURNS 1W 0.01R)
footprint R0402
footprint R0603
footprint R0805
footprint R1206
footprint R1210
footprint R1812 (1812 size SMD resistor)
footprint R2512 (2512 size SMD resistor)
footprint RES10.35-6.8X2.8 (Resistor, Axial; Body 6.8 x 2.8 mm (LxDia. max), Lead Dia. 0.65 mm (max))
footprint RES14.2-10.5X3.3 (Resistor, Axial; Body 10.5 x 3.3 mm (LxDia. max), Lead Dia. 0.7 mm (max))
footprint RES17.2-13.5X6.3 (Resistor, Axial; Body 13.5 x 6.3 mm (LxDia. max), Lead Dia. 0.7 mm (max))
footprint RES21.6-16.5X6.5 (Resistor, Axial; Body 16.5 x 6.5 mm (LxDia. max), Lead Dia. 0.85 mm (max))
footprint RES30.6-25.5X9 (Resistor, Axial; Body 25.5 x 9 mm (LxDia. max), Lead Dia. 0.85 mm (max))
footprint RES41.6-36.5X10.5 (Resistor, Axial; Body 36.5 x 10.5 x 10.5mm (LxWxH max), Lead Dia. 0.85 mm (max))
simulation model RES (Default semiconductor resistor)
footprint R1206_OLD
pins: 1, 2
2 alternate drawings of the same symbol

## Res_17
designator R?, comment 180
Resistor; Published: 19-Feb-2006; ComponentLink1Description: datasheet; ComponentLink2Description: supplier; Value: 180
footprint PWR4412-2SBR010F (BOURNS 1W 0.01R)
footprint R0402
footprint R0603
footprint R0805
footprint R1206
footprint R1210
footprint R1812 (1812 size SMD resistor)
footprint R2512 (2512 size SMD resistor)
footprint RES10.35-6.8X2.8 (Resistor, Axial; Body 6.8 x 2.8 mm (LxDia. max), Lead Dia. 0.65 mm (max))
footprint RES14.2-10.5X3.3 (Resistor, Axial; Body 10.5 x 3.3 mm (LxDia. max), Lead Dia. 0.7 mm (max))
footprint RES17.2-13.5X6.3 (Resistor, Axial; Body 13.5 x 6.3 mm (LxDia. max), Lead Dia. 0.7 mm (max))
footprint RES21.6-16.5X6.5 (Resistor, Axial; Body 16.5 x 6.5 mm (LxDia. max), Lead Dia. 0.85 mm (max))
footprint RES30.6-25.5X9 (Resistor, Axial; Body 25.5 x 9 mm (LxDia. max), Lead Dia. 0.85 mm (max))
footprint RES41.6-36.5X10.5 (Resistor, Axial; Body 36.5 x 10.5 x 10.5mm (LxWxH max), Lead Dia. 0.85 mm (max))
simulation model RES (Default semiconductor resistor)
footprint R1206_OLD
pins: 1, 2
2 alternate drawings of the same symbol

## RTC_DS1339AU
designator U?, comment Układ RTC
Model: DS1339AU+; Shop link: https://www.tme.eu/pl/details/ds1339au+/uklady-rtc/analog-devices-maxim-integrated/; Quantity: *; Voltage: *; Assembly type: SMD; Footprint link: https://www.snapeda.com/parts/DS1339AU%2B/Maxim%20Integrated/view-part/?ref=search&t=DS1339AU%2B; Value: *; 3D model link: https://www.snapeda.com/parts/DS1339AU%2B/Maxim%20Integrated/view-part/?ref=search&t=DS1339AU%2B
footprint SOP65P490X110-8N
pins: 1 X1, 2 X2, 3 VBACKUP, 4 GND, 5 SDA, 6 SCL, 7 SQW/ neg_INT, 8 VDD

## Step_motor_Socket_TMC2209
designator CN?, comment Złącze na sterownik silników krokowych
footprint Model Name (Footprint not found)
footprint Step_motor_Socket_TMC2209
pins: 1 EN, 2 MS1, 3 MS2, 4 TX, 5 RX, 6 CLK, 7 STEP, 8 DIR, 9 VM, 10 MGND, 11 A2, 12 A1, 13 B1, 14 B2, 15 VDD, 16 GND

## Terminal_block_1x4
designator CN?, comment Listwa zaciskowa
Model: 282836-4; Shop link: https://www.tme.eu/pl/details/282836-4/listwy-zaciskowe-do-druku/te-connectivity/; 3D model link: https://www.snapeda.com/parts/282836-4/TE%20Connectivity/view-part/?ref=search&t=282836-4
footprint Model Name (Footprint not found)
footprint TE_282836-4
pins: 1, 2, 3, 4

## TSOP31236
designator U?, comment TSOP34848
Remote Receiver Sensor, 36.0kHz 45m Through Hole; MF: Vishay Semiconductor; MP: TSOP31236; SnapEDA_Link: https://www.snapeda.com/parts/TSOP31236/Vishay%20Semiconductor%20Opto%20Division/view-part/266363/?ref=snap; Value: *; Price: None; Availability: Unavailable; Package: None
footprint XCVR_TSOP31236
footprint XCVR_TSOP31236
footprint Vishay_TSOP34838_0
pins: 1 GND (power), 2 VS (power), 3 OUT (out)

## XTAL_2PIN
designator Y?, comment 8MHz
Crystal Oscillator (20pF); ComponentLink1Description: datasheet; ComponentLink2Description: supplier; Value: *
footprint HC49 (Crystal Oscillator)
footprint HC49-S (Crystal Oscillator)
footprint HC49/4H (Crystal Oscillator)
footprint SMD 12SMX A (SMD crystal oscillator size A)
footprint SMD 91SMX (SMD crystal oscillator size 91SMX)
footprint HC49 (Crystal Oscillator)
footprint HC49-S (Crystal Oscillator)
footprint HC49/4H (Crystal Oscillator)
footprint SMD 12SMX A (SMD crystal oscillator size A)
footprint SMD 91SMX (SMD crystal oscillator size 91SMX)
footprint 5,0x3,2x1,2mm (Quartz Crystal, SMD; Body 5,0 x 3,2 mm (LxW max), e.g. Farnell 1841957)
pins: 1 OSC1, 2 OSC2

## XTAL_2PIN_1
designator Y?, comment 32.768kHz
Crystal Oscillator (20pF); ComponentLink1Description: datasheet; ComponentLink2Description: supplier; Value: *
footprint HC49 (Crystal Oscillator)
footprint HC49-S (Crystal Oscillator)
footprint HC49/4H (Crystal Oscillator)
footprint SMD 12SMX A (SMD crystal oscillator size A)
footprint SMD 91SMX (SMD crystal oscillator size 91SMX)
footprint HC49 (Crystal Oscillator)
footprint HC49-S (Crystal Oscillator)
footprint HC49/4H (Crystal Oscillator)
footprint SMD 12SMX A (SMD crystal oscillator size A)
footprint SMD 91SMX (SMD crystal oscillator size 91SMX)
footprint 5,0x3,2x1,2mm (Quartz Crystal, SMD; Body 5,0 x 3,2 mm (LxW max), e.g. Farnell 1841957)
pins: 1 OSC1, 2 OSC2

## XTAL_2PIN_2
designator Y?, comment 48MHz
Crystal Oscillator (20pF); ComponentLink1Description: datasheet; ComponentLink2Description: supplier; Value: *
footprint HC49 (Crystal Oscillator)
footprint HC49-S (Crystal Oscillator)
footprint HC49/4H (Crystal Oscillator)
footprint SMD 12SMX A (SMD crystal oscillator size A)
footprint SMD 91SMX (SMD crystal oscillator size 91SMX)
footprint HC49 (Crystal Oscillator)
footprint HC49-S (Crystal Oscillator)
footprint HC49/4H (Crystal Oscillator)
footprint SMD 12SMX A (SMD crystal oscillator size A)
footprint SMD 91SMX (SMD crystal oscillator size 91SMX)
footprint 5,0x3,2x1,2mm (Quartz Crystal, SMD; Body 5,0 x 3,2 mm (LxW max), e.g. Farnell 1841957)
pins: 1 OSC1, 2 OSC2